# Altium schematic symbol library Connector-DSub.SchLib: 2 symbols
Pins are listed as number, name and electrical type; pins without a type are passive.

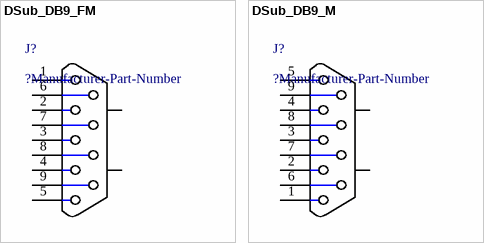
[diagram p0: symbols DSub_DB9_FM to DSub_DB9_M]

## DSub_DB9_FM
designator J?, comment ?Manufacturer-Part-Number
DB9母座弯插; Manufacturer_Name: Ckmtw(灿科盟); Manufacturer_Part_Number: D-DMR009PF-D002; LCSC: C141882
footprint DB9-FM90-TH (D-DMR009PF-D002)
footprint DB9-FM180-TH (D-DMS009PF-F000)
pins: 1, 2, 3, 4, 5, 6, 7, 8, 9, 10 MH, 11 MH

## DSub_DB9_M
designator J?, comment ?Manufacturer-Part-Number
DB9公座弯插; Manufacturer_Name: Ckmtw(灿科盟); Manufacturer_Part_Number: D-DMR009PM-D002; LCSC: C141880
footprint DB9-M90-TH (D-DMR009PM-D002)
footprint DB9-M180-TH (D-DMS009PM-F000)
pins: 1, 2, 3, 4, 5, 6, 7, 8, 9, 10 MH, 11 MH